# Altium integrated library Altium_WR-BNC (rev25a).IntLib: 5 symbols
Pins are listed as number, name and electrical type; pins without a type are passive.

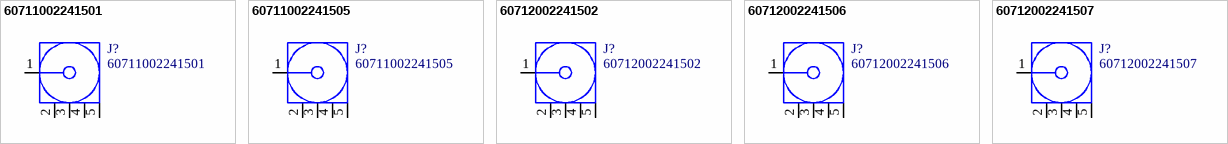
[diagram p0: symbols 60711002241501 to 60712002241507]

## 60711002241501
designator J?
WR-BNC BNC PCB Connector, THT Right Angle Jack, DC~1 GHz, 50Ω; Manufacturer: Wurth Elektronik; Interface Type: MIL-STD-348; Manufacturer Part Number: 60711002241501; Category: Coaxial Connector; Match Code: WR-BNC; ComponentLink1Description: Website Link; ComponentLink1URL: https://www.we-online.com/redexpert/article/60711002241501?ad; ComponentLink2Description: Datasheet Link; ComponentLink2URL: https://www.we-online.com/redexpert/spec/60711002241501?ad; Mount: Through Hole; Min Operating Temperature: -65°C; Max Operating Temperature: 165°C; Packaging: Tray; Connector Type: BNC; Frequency Range: DC~1 GHz; Gender: Jack; Impedance: 50Ω; Orientation: Right Angle
footprint 60711002241501
pins: 1 Signal "Signal Pin", 2 GND, 3 GND, 4 GND, 5 GND

## 60711002241505
designator J?
WR-BNC BNC PCB Connector, THT Right Angle Jack, DC~1 GHz, 50Ω; Manufacturer: Wurth Elektronik; Interface Type: MIL-STD-348; Manufacturer Part Number: 60711002241505; Category: Coaxial Connector; Match Code: WR-BNC; ComponentLink1Description: Website Link; ComponentLink1URL: https://www.we-online.com/redexpert/article/60711002241505?ad; ComponentLink2Description: Datasheet Link; ComponentLink2URL: https://www.we-online.com/redexpert/spec/60711002241505?ad; Mount: Through Hole; Min Operating Temperature: -65°C; Max Operating Temperature: 165°C; Packaging: Tray; Connector Type: BNC; Frequency Range: DC~1 GHz; Gender: Jack; Impedance: 50Ω; Orientation: Right Angle
footprint 60711002241505
pins: 1 Signal "Signal Pin", 2 GND, 3 GND, 4 GND, 5 GND

## 60712002241502
designator J?
WR-BNC BNC PCB Connector, THT Straight Jack, DC~4 GHz, 50Ω; Manufacturer: Wurth Elektronik; Interface Type: MIL-STD-348; Manufacturer Part Number: 60712002241502; Category: Coaxial Connector; Match Code: WR-BNC; ComponentLink1Description: Website Link; ComponentLink1URL: https://www.we-online.com/redexpert/article/60712002241502?ad; ComponentLink2Description: Datasheet Link; ComponentLink2URL: https://www.we-online.com/redexpert/spec/60712002241502?ad; Mount: Through Hole; Min Operating Temperature: -65°C; Max Operating Temperature: 165°C; Packaging: Tray; Connector Type: BNC; Frequency Range: DC~4 GHz; Gender: Jack; Impedance: 50Ω; Orientation: Straight
footprint 60712002241502
pins: 1 Signal "Signal Pin", 2 GND, 3 GND, 4 GND, 5 GND

## 60712002241506
designator J?
WR-BNC BNC PCB Connector, THT Straight Jack, DC~4 GHz, 50Ω; Manufacturer: Wurth Elektronik; Interface Type: MIL-STD-348; Manufacturer Part Number: 60712002241506; Category: Coaxial Connector; Match Code: WR-BNC; ComponentLink1Description: Website Link; ComponentLink1URL: https://www.we-online.com/redexpert/article/60712002241506?ad; ComponentLink2Description: Datasheet Link; ComponentLink2URL: https://www.we-online.com/redexpert/spec/60712002241506?ad; Mount: Through Hole; Min Operating Temperature: -65°C; Max Operating Temperature: 165°C; Packaging: Tray; Connector Type: BNC; Frequency Range: DC~4 GHz; Gender: Jack; Impedance: 50Ω; Orientation: Straight
footprint 60712002241506
pins: 1 Signal "Signal Pin", 2 GND, 3 GND, 4 GND, 5 GND

## 60712002241507
designator J?
WR-BNC BNC PCB Connector, THT Straight Jack, DC~4 GHz, 50Ω; Manufacturer: Wurth Elektronik; Interface Type: MIL-STD-348; Manufacturer Part Number: 60712002241507; Category: Coaxial Connector; Match Code: WR-BNC; ComponentLink1Description: Website Link; ComponentLink1URL: https://www.we-online.com/redexpert/article/60712002241507?ad; ComponentLink2Description: Datasheet Link; ComponentLink2URL: https://www.we-online.com/redexpert/spec/60712002241507?ad; Mount: Through Hole; Min Operating Temperature: -65°C; Max Operating Temperature: 165°C; Packaging: Tray; Connector Type: BNC; Frequency Range: DC~4 GHz; Gender: Jack; Impedance: 50Ω; Orientation: Straight
footprint 60712002241507
pins: 1 Signal "Signal Pin", 2 GND, 3 GND, 4 GND, 5 GND